# EAGLE library part P-00038_SC1602B (library Akizuki)
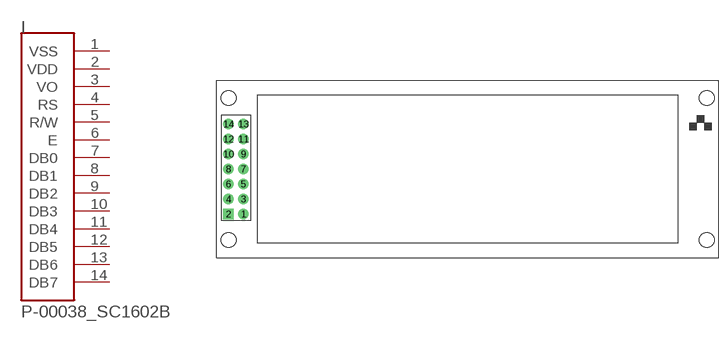
[diagram p12: symbol with the pads of SC1602BS-B(-XA-GB-K); footprint SC1602BS-B(-XA-GB-K)]

Designator prefix I

## P-00038_SC1602B  [SC1602BS-B(-XA-GB-K)]
1  VSS
2  VDD
3  VO
4  RS
5  R/W
6  E
7  DB0
8  DB1
9  DB2
10  DB3
11  DB4
12  DB5
13  DB6
14  DB7

## Footprint SC1602BS-B(-XA-GB-K) (pad centres in mm)
drill 0.9 pad 1.778: 1 4.54,7.38; 3 4.54,9.92; 4 2,9.92; 5 4.54,12.46; 6 2,12.46; 7 4.54,15; 8 2,15; 9 4.54,17.54; 10 2,17.54; 11 4.54,20.08; 12 2,20.08; 13 4.54,22.62; 14 2,22.62
drill 0.9 pad 1.778 square: 2 2,7.38
hole 2.5 at 2,27
hole 2.5 at 2,3
hole 2.5 at 83,3
hole 2.5 at 83,27